# Altium integrated library 电阻.IntLib: 13 symbols
Pins are listed as number, name and electrical type; pins without a type are passive.

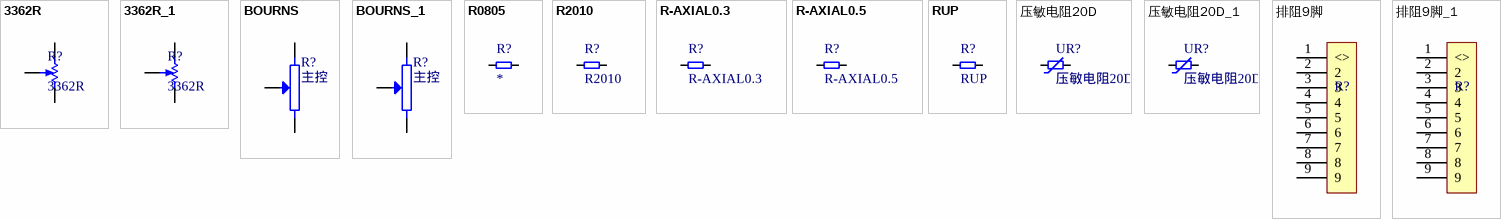
[diagram p0: symbols 3362R to 排阻9脚_1]

## 3362R
designator R?
footprint 3362R
pins: 1, 2, 3

## 3362R_1
designator R?, comment 3362R
footprint 3362R
pins: 1, 2, 3

## BOURNS
designator R?, comment 主控
footprint BOURNS
pins: 1, 2, 3

## BOURNS_1
designator R?, comment 主控
footprint BOURNS
pins: 1, 2, 3

## R0805
designator R?
footprint R0805
pins: 1, 2

## R2010
designator R?
footprint R2010
pins: 1, 2

## R-AXIAL0.3
designator R?
footprint R-AXIAL0.3
pins: 1, 2

## R-AXIAL0.5
designator R?
footprint R-AXIAL0.5
pins: 1, 2

## RUP
designator R?
footprint RUP
pins: 1, 2

## 压敏电阻20D
designator UR?
footprint 压敏电阻20D
pins: 1, 2

## 压敏电阻20D_1
designator UR?, comment 压敏电阻20D
footprint 压敏电阻20D
pins: 1, 2

## 排阻9脚
designator R?
footprint R9PIN
pins: 1 <>, 2, 3, 4, 5, 6, 7, 8, 9

## 排阻9脚_1
designator R?
footprint R9PIN
pins: 1 <>, 2, 3, 4, 5, 6, 7, 8, 9